# Altium footprint library FootPrnt_fact.PcbLib: 87 footprints (part 4 of 6)
Each footprint in its own frame and in the unit in brackets; x right, y up, seen from the top. Pads: shape width x height; smd on the part's side, far side on the other; paste and mask are expansions set on the pad; w line width, h text height; cw(c..) or ccw(c..) is an arc to the next point about the centre after c.
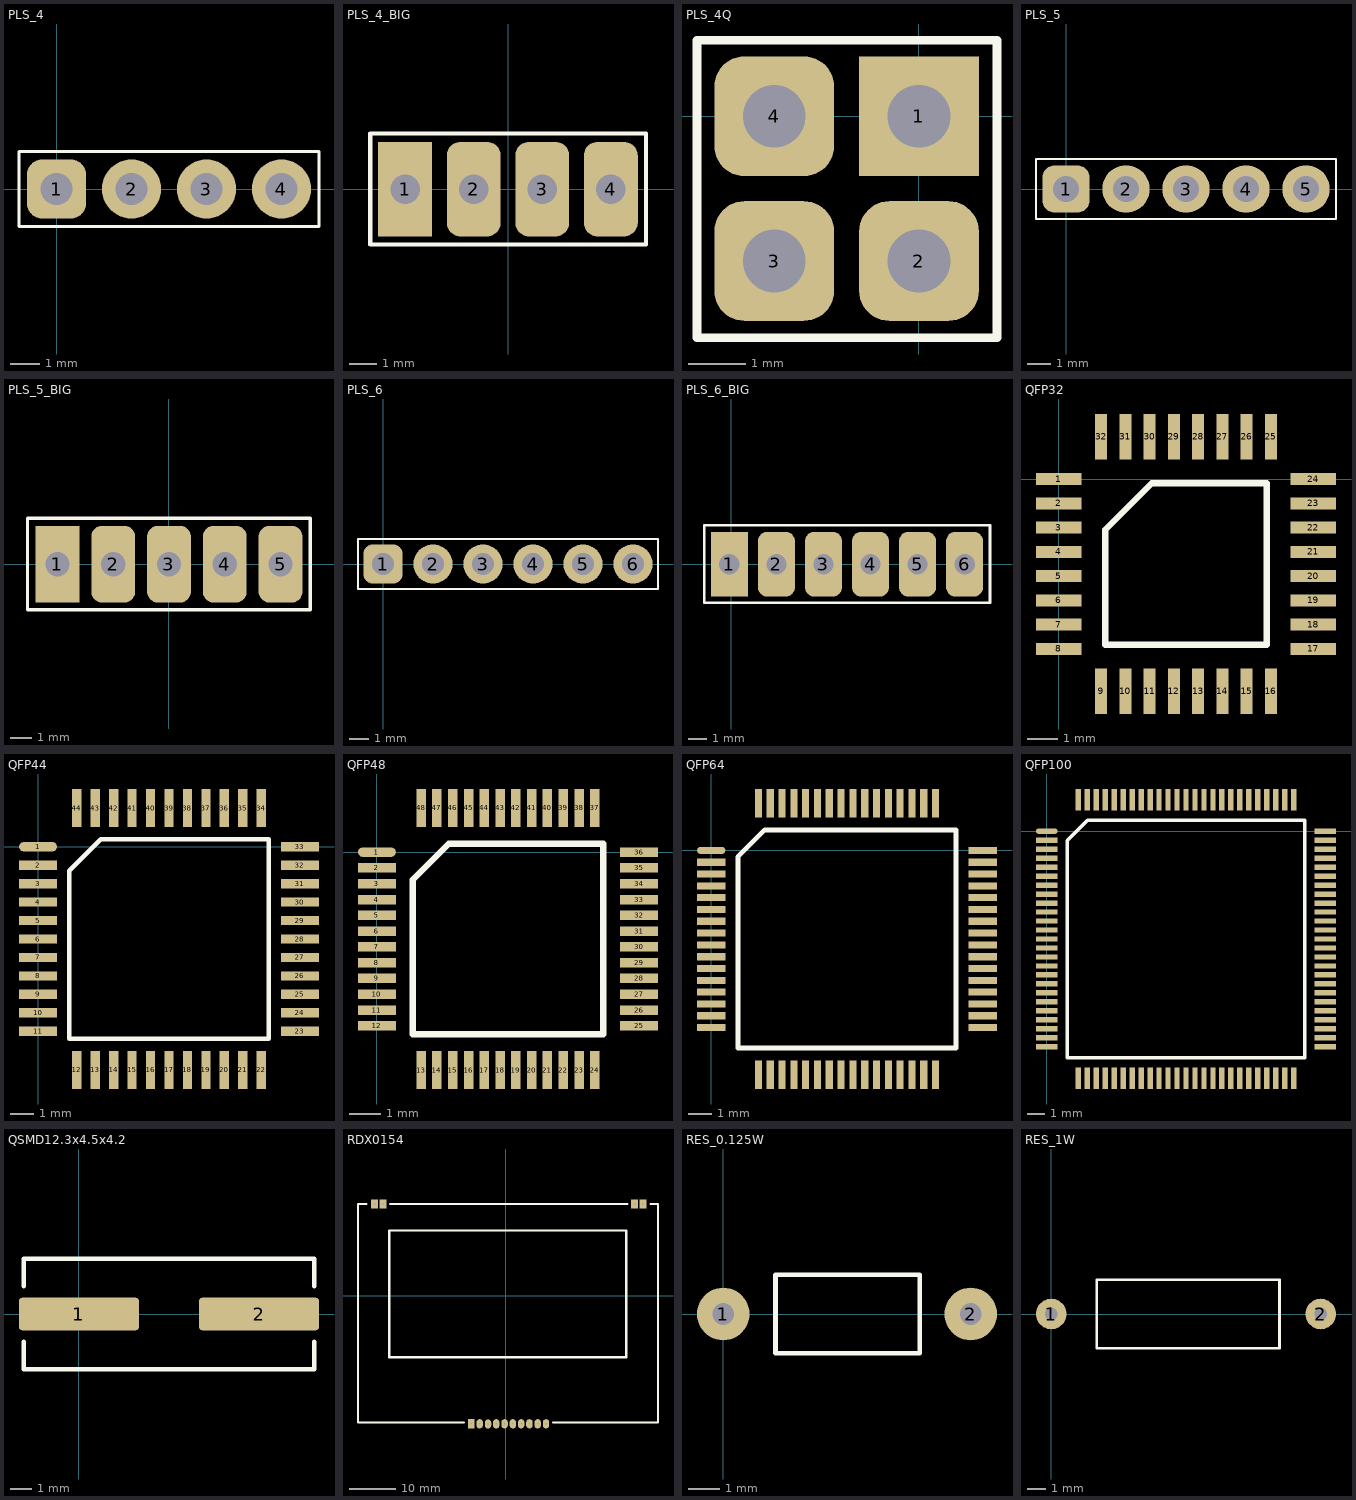
[diagram p3: the footprints below, top view; thin cyan lines are the x and y axes]

## PLS_4 [mm]
pads (4):
  rrect50% 2x2 hole 1.1: 1(0,0)
  round 2 hole 1.1: 2(2.54,0) 3(5.08,0) 4(7.62,0)
Top Overlay:
  lines w0.1: -1.27,-1.27 8.89,-1.27 8.89,1.27 -1.27,1.27 -1.27,-1.27

## PLS_4_BIG [mm]
pads (4):
  rect 2x3.5 hole 1.1: 1(-3.81,0)
  rrect50% 2x3.5 hole 1.1: 2(-1.27,0) 3(1.27,0) 4(3.81,0)
Top Overlay:
  lines w0.15: -5.106,-2.046 5.118,-2.046 5.118,2.058 -5.106,2.058 -5.106,-2.046

## PLS_4Q [mm]
pads (4):
  rect 2.1x2.1 hole 1.1: 1(0,0)
  rrect50% 2.1x2.1 hole 1.1: 2(0,-2.54) 3(-2.54,-2.54) 4(-2.54,0)
Top Overlay:
  lines w0.15: -3.894,-3.884 -3.894,1.333 1.368,1.333 1.368,-3.884 -3.894,-3.884

## PLS_5 [mm]
pads (5):
  rrect50% 2x2 hole 1.1: 1(0,0)
  round 2 hole 1.1: 2(2.54,0) 3(5.08,0) 4(7.62,0) 5(10.16,0)
Top Overlay:
  lines w0.1: -1.27,-1.27 -1.27,1.27 11.43,1.27 11.43,-1.27 -1.27,-1.27

## PLS_5_BIG [mm]
pads (5):
  rect 2x3.5 hole 1.1: 1(-5.08,0)
  rrect50% 2x3.5 hole 1.1: 2(-2.54,0) 3(0,0) 4(2.54,0) 5(5.08,0)
Top Overlay:
  lines w0.15: -6.443,-2.079 -6.443,2.097 6.429,2.097 6.429,-2.079 -6.443,-2.079

## PLS_6 [mm]
pads (6):
  rrect50% 2x2 hole 1.1: 1(0,0)
  round 2 hole 1.1: 2(2.54,0) 3(5.08,0) 4(7.62,0) 5(10.16,0) 6(12.7,0)
Top Overlay:
  lines w0.1: -1.27,-1.27 13.97,-1.27 13.97,1.27 -1.27,1.27 -1.27,-1.27

## PLS_6_BIG [mm]
pads (6):
  rect 2x3.5 hole 1.1: 1(-0.092,0.012)
  rrect50% 2x3.5 hole 1.1: 2(2.448,0.012) 3(4.988,0.012) 4(7.528,0.012) 5(10.068,0.012) 6(12.608,0.012)
Top Overlay:
  lines w0.15: -1.455,-2.068 -1.455,2.109 13.979,2.109 13.979,-2.068 -1.455,-2.068

## QFP32 [mm]
pads (32):
  rect 1.5x0.4 smd: 1(0,0) 2(0,-0.8) 3(0,-1.6) 4(0,-2.4) 5(0,-3.2) 6(0,-4) 7(0,-4.8) 8(0,-5.6) 17(8.4,-5.6) 18(8.4,-4.8) 19(8.4,-4) 20(8.4,-3.2) 21(8.4,-2.4) 22(8.4,-1.6) 23(8.4,-0.8) 24(8.4,0)
  rect 0.4x1.5 smd: 9(1.4,-7) 10(2.2,-7) 11(3,-7) 12(3.8,-7) 13(4.6,-7) 14(5.4,-7) 15(6.2,-7) 16(7,-7) 25(7,1.4) 26(6.2,1.4) 27(5.4,1.4) 28(4.6,1.4) 29(3.8,1.4) 30(3,1.4) 31(2.2,1.4) 32(1.4,1.4)
Top Overlay:
  lines w0.2: 1.535,-5.465 6.865,-5.465 6.865,-0.135 3.07,-0.135 1.535,-1.67 1.535,-5.465

## QFP44 [mm]
pads (44):
  oval 1.65x0.4 smd: 1(0,0)
  rect 1.65x0.4 smd: 2(0,-0.8) 3(0,-1.6) 4(0,-2.4) 5(0,-3.2) 6(0,-4) 7(0,-4.8) 8(0,-5.6) 9(0,-6.4) 10(0,-7.2) 11(0,-8) 23(11.36,-8) 24(11.36,-7.2) 25(11.36,-6.4) 26(11.36,-5.6) 27(11.36,-4.8) 28(11.36,-4) 29(11.36,-3.2) 30(11.36,-2.4) 31(11.36,-1.6) 32(11.36,-0.8) 33(11.36,0)
  rect 0.4x1.65 smd: 12(1.68,-9.68) 13(2.48,-9.68) 14(3.28,-9.68) 15(4.08,-9.68) 16(4.88,-9.68) 17(5.68,-9.68) 18(6.48,-9.68) 19(7.28,-9.68) 20(8.08,-9.68) 21(8.88,-9.68) 22(9.68,-9.68) 34(9.68,1.68) 35(8.88,1.68) 36(8.08,1.68) 37(7.28,1.68) 38(6.48,1.68) 39(5.68,1.68) 40(4.88,1.68) 41(4.08,1.68) 42(3.28,1.68) 43(2.48,1.68) 44(1.68,1.68)
Top Overlay:
  lines w0.2: 1.36,-8.32 1.36,-1.04 2.72,0.32 10,0.32 10,-8.32 1.36,-8.32

## QFP48 [mm]
pads (48):
  oval 1.2x0.3 smd: 1(0,0)
  rect 1.2x0.3 smd: 2(0,-0.5) 3(0,-1) 4(0,-1.5) 5(0,-2) 6(0,-2.5) 7(0,-3) 8(0,-3.5) 9(0,-4) 10(0,-4.5) 11(0,-5) 12(0,-5.5) 25(8.3,-5.5) 26(8.3,-5) 27(8.3,-4.5) 28(8.3,-4) 29(8.3,-3.5) 30(8.3,-3) 31(8.3,-2.5) 32(8.3,-2) 33(8.3,-1.5) 34(8.3,-1) 35(8.3,-0.5) 36(8.3,0)
  rect 0.3x1.2 smd: 13(1.4,-6.9) 14(1.9,-6.9) 15(2.4,-6.9) 16(2.9,-6.9) 17(3.4,-6.9) 18(3.9,-6.9) 19(4.4,-6.9) 20(4.9,-6.9) 21(5.4,-6.9) 22(5.9,-6.9) 23(6.4,-6.9) 24(6.9,-6.9) 37(6.9,1.4) 38(6.4,1.4) 39(5.9,1.4) 40(5.4,1.4) 41(4.9,1.4) 42(4.4,1.4) 43(3.9,1.4) 44(3.4,1.4) 45(2.9,1.4) 46(2.4,1.4) 47(1.9,1.4) 48(1.4,1.4)
Top Overlay:
  lines w0.2: 1.135,-5.765 1.135,-0.87 2.27,0.265 7.165,0.265 7.165,-5.765 1.135,-5.765

## QFP64 [mm]
pads (64):
  oval 1.2x0.3 smd: 1(0,0)
  rect 1.2x0.3 smd: 2(0,-0.5) 3(0,-1) 4(0,-1.5) 5(0,-2) 6(0,-2.5) 7(0,-3) 8(0,-3.5) 9(0,-4) 10(0,-4.5) 11(0,-5) 12(0,-5.5) 13(0,-6) 14(0,-6.5) 15(0,-7) 16(0,-7.5) 33(11.5,-7.5) 34(11.5,-7) 35(11.5,-6.5) 36(11.5,-6) 37(11.5,-5.5) 38(11.5,-5) 39(11.5,-4.5) 40(11.5,-4) 41(11.5,-3.5) 42(11.5,-3) 43(11.5,-2.5) 44(11.5,-2) 45(11.5,-1.5) 46(11.5,-1) 47(11.5,-0.5) 48(11.5,0)
  rect 0.3x1.2 smd: 17(2,-9.5) 18(2.5,-9.5) 19(3,-9.5) 20(3.5,-9.5) 21(4,-9.5) 22(4.5,-9.5) 23(5,-9.5) 24(5.5,-9.5) 25(6,-9.5) 26(6.5,-9.5) 27(7,-9.5) 28(7.5,-9.5) 29(8,-9.5) 30(8.5,-9.5) 31(9,-9.5) 32(9.5,-9.5) 49(9.5,2) 50(9,2) 51(8.5,2) 52(8,2) 53(7.5,2) 54(7,2) 55(6.5,2) 56(6,2) 57(5.5,2) 58(5,2) 59(4.5,2) 60(4,2) 61(3.5,2) 62(3,2) 63(2.5,2) 64(2,2)
Top Overlay:
  lines w0.2: 1.135,-8.365 10.365,-8.365 10.365,0.865 2.27,0.865 1.135,-0.27 1.135,-8.365

## QFP100 [mm]
pads (100):
  oval 1.2x0.3 smd: 1(0,0)
  rect 1.2x0.3 smd: 2(0,-0.5) 3(0,-1) 4(0,-1.5) 5(0,-2) 6(0,-2.5) 7(0,-3) 8(0,-3.5) 9(0,-4) 10(0,-4.5) 11(0,-5) 12(0,-5.5) 13(0,-6) 14(0,-6.5) 15(0,-7) 16(0,-7.5) 17(0,-8) 18(0,-8.5) 19(0,-9) 20(0,-9.5) 21(0,-10) 22(0,-10.5) 23(0,-11) 24(0,-11.5) 25(0,-12) 51(15.5,-12) 52(15.5,-11.5) 53(15.5,-11) 54(15.5,-10.5) 55(15.5,-10) 56(15.5,-9.5) 57(15.5,-9) 58(15.5,-8.5) 59(15.5,-8) 60(15.5,-7.5) 61(15.5,-7) 62(15.5,-6.5) 63(15.5,-6) 64(15.5,-5.5) 65(15.5,-5) 66(15.5,-4.5) 67(15.5,-4) 68(15.5,-3.5) 69(15.5,-3) 70(15.5,-2.5) 71(15.5,-2) 72(15.5,-1.5) 73(15.5,-1) 74(15.5,-0.5) 75(15.5,0)
  rect 0.3x1.2 smd: 26(1.75,-13.75) 27(2.25,-13.75) 28(2.75,-13.75) 29(3.25,-13.75) 30(3.75,-13.75) 31(4.25,-13.75) 32(4.75,-13.75) 33(5.25,-13.75) 34(5.75,-13.75) 35(6.25,-13.75) 36(6.75,-13.75) 37(7.25,-13.75) 38(7.75,-13.75) 39(8.25,-13.75) 40(8.75,-13.75) 41(9.25,-13.75) 42(9.75,-13.75) 43(10.25,-13.75) 44(10.75,-13.75) 45(11.25,-13.75) 46(11.75,-13.75) 47(12.25,-13.75) 48(12.75,-13.75) 49(13.25,-13.75) 50(13.75,-13.75) 76(13.75,1.75) 77(13.25,1.75) 78(12.75,1.75) 79(12.25,1.75) 80(11.75,1.75) 81(11.25,1.75) 82(10.75,1.75) 83(10.25,1.75) 84(9.75,1.75) 85(9.25,1.75) 86(8.75,1.75) 87(8.25,1.75) 88(7.75,1.75) 89(7.25,1.75) 90(6.75,1.75) 91(6.25,1.75) 92(5.75,1.75) 93(5.25,1.75) 94(4.75,1.75) 95(4.25,1.75) 96(3.75,1.75) 97(3.25,1.75) 98(2.75,1.75) 99(2.25,1.75) 100(1.75,1.75)
Top Overlay:
  lines w0.2: 1.135,-12.615 1.135,-0.52 2.27,0.615 14.365,0.615 14.365,-12.615 1.135,-12.615

## QSMD12.3x4.5x4.2 [mm]
pads (2):
  rrect20% 5.5x1.5 smd: 1(0,0) 2(8.255,0)
Top Overlay:
  lines w0.2: -2.54,-1.27 -2.54,-2.54 10.795,-2.54 10.795,-1.27 ; -2.54,1.27 -2.54,2.54 10.795,2.54 10.795,1.27

## RDX0154 [mm]
pads (14):
  rect 1.5x2 hole 0.3: 0(-28.505,19.95) 0(-26.705,19.95) 0(27.915,19.95) 0(29.715,19.95)
  rect 1.4x2 hole 0.3: 1(-7.505,-27.75)
  oval 1.4x2 hole 0.3: 2(-5.705,-27.75) 3(-3.885,-27.785) 4(-2.105,-27.75) 5(-0.305,-27.75) 6(1.495,-27.75) 7(3.295,-27.75) 8(5.095,-27.75) 9(6.895,-27.75) 10(8.695,-27.75)
Top Overlay:
  lines w0.5: -30.305,19.95 -32.105,19.95 -32.105,-27.45 -9.105,-27.45 ; -25.105,19.95 26.295,19.95 ; 10.195,-27.45 32.995,-27.45 32.995,19.95 31.395,19.95 ; -25.305,-13.31 -25.305,14.19 26.095,14.19 26.095,-13.31 -25.305,-13.31

## RES_0.125W [mm]
pads (2):
  round 1.7 hole 0.7: 1(0,0) 2(8,0)
Top Overlay:
  lines w0.15: 1.687,-1.27 6.35,-1.27 6.35,1.27 1.687,1.27 1.687,-1.27

## RES_1W [mm]
pads (2):
  round 1.7 hole 0.7: 1(0,0) 2(15,0)
Top Overlay:
  lines w0.15: 2.54,-1.905 12.7,-1.905 12.7,1.905 2.54,1.905 2.54,-1.905